# Altium integrated library SSQ-107-02-G-D-RA-006.IntLib: 1 symbol
Pins are listed as number, name and electrical type; pins without a type are passive.

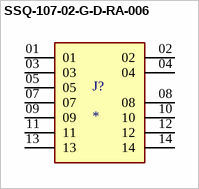
[diagram p0: symbol SSQ-107-02-G-D-RA-006]

## SSQ-107-02-G-D-RA-006
designator J?
MP: SSQ-107-02-G-D-RA-006; Availability: Unavailable; Price: None; Package: None; Value: *
footprint SAMTEC_SSQ-107-02-G-D-RA-006
pins: 01, 02, 03, 04, 05, 07, 08, 09, 10, 11, 12, 13, 14